# Altium footprint library RF_Shielding.PcbLib: 30 footprints (part 1 of 2)
Each footprint in its own frame and in the unit in brackets; x right, y up, seen from the top. Pads: shape width x height; smd on the part's side, far side on the other; paste and mask are expansions set on the pad; w line width, h text height; cw(c..) or ccw(c..) is an arc to the next point about the centre after c.
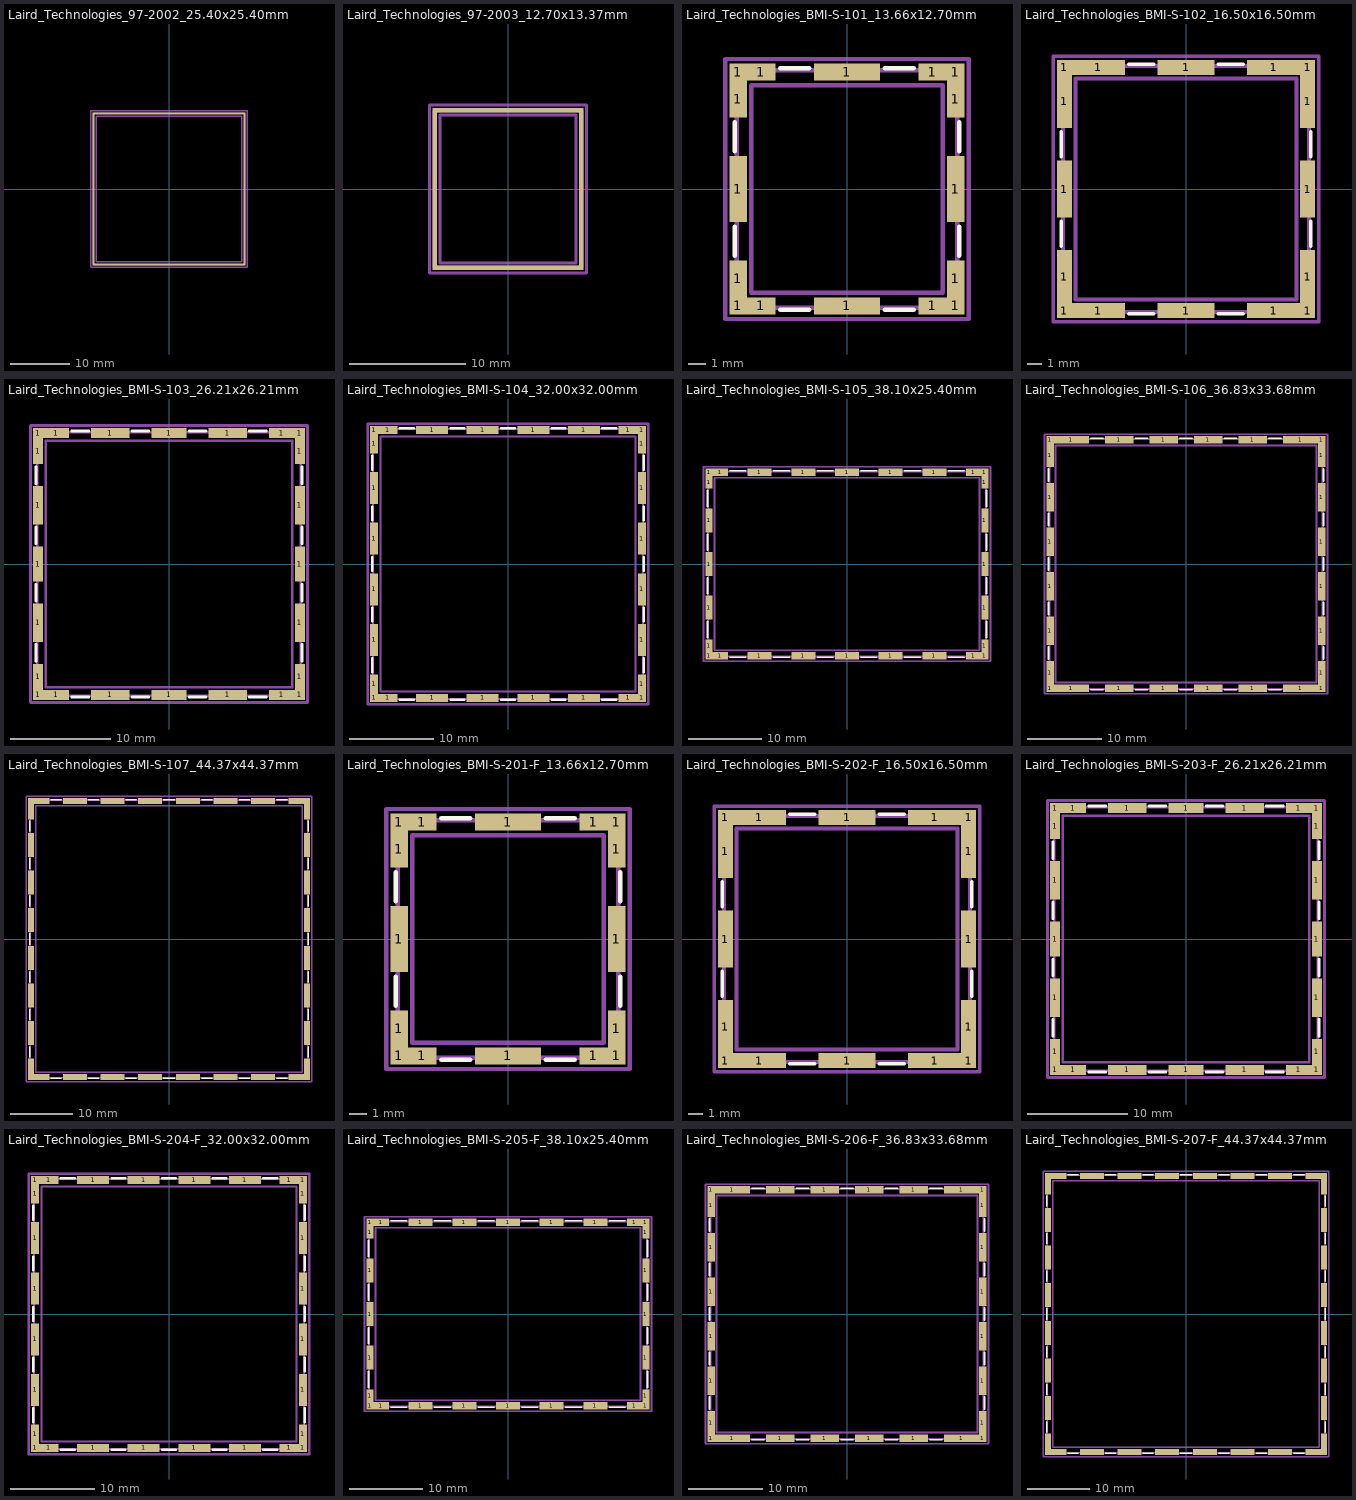
[diagram p0: the footprints below, top view; thin cyan lines are the x and y axes]

## Laird_Technologies_97-2002_25.40x25.40mm [mm]
pads (8):
  rect 0.38x0.38 smd: 1(-12.635,-12.635) 1(-12.635,12.635) 1(12.635,-12.635) 1(12.635,12.635)
  rect 0.38x24.89 smd: 1(-12.635,0) 1(12.635,0)
  rect 24.89x0.38 smd: 1(0,-12.635) 1(0,12.635)
F.Fab:
  lines w0.254: -12.7,-12.7 -12.7,12.7 12.7,12.7 12.7,-12.7 -12.7,-12.7
  text "'.Designator'" at -4.047,-0.84 h1
F.CrtYd:
  lines w0.254: -13.08,-13.08 -13.08,13.08 13.08,13.08 13.08,-13.08 -13.08,-13.08 ; -12.19,-12.19 -12.19,12.19 12.19,12.19 12.19,-12.19 -12.19,-12.19

## Laird_Technologies_97-2003_12.70x13.37mm [mm]
pads (8):
  rect 0.38x0.38 smd: 1(-6.285,-6.77) 1(-6.285,6.77) 1(6.285,-6.77) 1(6.285,6.77)
  rect 0.38x13.16 smd: 1(-6.285,0) 1(6.285,0)
  rect 12.19x0.38 smd: 1(0,-6.77) 1(0,6.77)
F.Fab:
  lines w0.254: -6.35,-6.685 -6.35,6.685 6.35,6.685 6.35,-6.685 -6.35,-6.685
  text "'.Designator'" at -4.047,-0.84 h1
F.CrtYd:
  lines w0.254: -6.73,-7.21 -6.73,7.21 6.73,7.21 6.73,-7.21 -6.73,-7.21 ; -5.84,-6.33 -5.84,6.33 5.84,6.33 5.84,-6.33 -5.84,-6.33

## Laird_Technologies_BMI-S-101_13.66x12.70mm [mm]
pads (16):
  rect 1x1 smd: 1(-6.25,-6.73) 1(-6.25,6.73) 1(6.25,-6.73) 1(6.25,6.73)
  rect 1x2.13 smd: 1(-6.25,-5.165) 1(-6.25,5.165) 1(6.25,-5.165) 1(6.25,5.165)
  rect 1x3.8 smd: 1(-6.25,0) 1(6.25,0)
  rect 1.65x1 smd: 1(-4.925,-6.73) 1(-4.925,6.73) 1(4.925,-6.73) 1(4.925,6.73)
  rect 3.8x1 smd: 1(0,-6.73) 1(0,6.73)
F.SilkS:
  lines w0.254: -6.46,-3.84 -6.46,-2.16 ; -6.46,2.16 -6.46,3.84 ; -3.84,-6.94 -2.16,-6.94 ; -3.84,6.94 -2.16,6.94 ; 2.16,-6.94 3.84,-6.94 ; 2.16,6.94 3.84,6.94 ; 6.46,-3.84 6.46,-2.16 ; 6.46,2.16 6.46,3.84
F.Fab:
  lines w0.254: -6.35,-6.83 -6.35,6.83 6.35,6.83 6.35,-6.83 -6.35,-6.83
  text "'.Designator'" at -4.047,-0.84 h1
F.CrtYd:
  lines w0.254: -7,-7.48 -7,7.48 7,7.48 7,-7.48 -7,-7.48 ; -5.5,-5.98 -5.5,5.98 5.5,5.98 5.5,-5.98 -5.5,-5.98

## Laird_Technologies_BMI-S-102_16.50x16.50mm [mm]
pads (16):
  rect 1x1 smd: 1(-8.15,-8.15) 1(-8.15,8.15) 1(8.15,-8.15) 1(8.15,8.15)
  rect 1x3.55 smd: 1(-8.15,-5.875) 1(-8.15,5.875) 1(8.15,-5.875) 1(8.15,5.875)
  rect 1x3.8 smd: 1(-8.15,0) 1(8.15,0)
  rect 3.55x1 smd: 1(-5.875,-8.15) 1(-5.875,8.15) 1(5.875,-8.15) 1(5.875,8.15)
  rect 3.8x1 smd: 1(0,-8.15) 1(0,8.15)
F.SilkS:
  lines w0.254: -8.36,-3.84 -8.36,-2.16 ; -8.36,2.16 -8.36,3.84 ; -3.84,-8.36 -2.16,-8.36 ; -3.84,8.36 -2.16,8.36 ; 2.16,-8.36 3.84,-8.36 ; 2.16,8.36 3.84,8.36 ; 8.36,-3.84 8.36,-2.16 ; 8.36,2.16 8.36,3.84
F.Fab:
  lines w0.254: -8.25,-8.25 -8.25,8.25 8.25,8.25 8.25,-8.25 -8.25,-8.25
  text "'.Designator'" at -4.047,-0.84 h1
F.CrtYd:
  lines w0.254: -8.9,-8.9 -8.9,8.9 8.9,8.9 8.9,-8.9 -8.9,-8.9 ; -7.4,-7.4 -7.4,7.4 7.4,7.4 7.4,-7.4 -7.4,-7.4

## Laird_Technologies_BMI-S-103_26.21x26.21mm [mm]
pads (24):
  rect 1x1 smd: 1(-13.005,-13.005) 1(-13.005,13.005) 1(13.005,-13.005) 1(13.005,13.005)
  rect 1x2.57 smd: 1(-13.005,-11.22) 1(-13.005,11.22) 1(13.005,-11.22) 1(13.005,11.22)
  rect 1x3.8 smd: 1(-13.005,-5.835) 1(-13.005,5.835) 1(13.005,-5.835) 1(13.005,5.835)
  rect 1x3.47 smd: 1(-13.005,0) 1(13.005,0)
  rect 2.57x1 smd: 1(-11.22,-13.005) 1(-11.22,13.005) 1(11.22,-13.005) 1(11.22,13.005)
  rect 3.8x1 smd: 1(-5.835,-13.005) 1(-5.835,13.005) 1(5.835,-13.005) 1(5.835,13.005)
  rect 3.47x1 smd: 1(0,-13.005) 1(0,13.005)
F.SilkS:
  lines w0.254: -13.215,-9.675 -13.215,-7.995 ; -13.215,-3.675 -13.215,-1.995 ; -13.215,1.995 -13.215,3.675 ; -13.215,7.995 -13.215,9.675 ; -9.675,-13.215 -7.995,-13.215 ; -9.675,13.215 -7.995,13.215 ; -3.675,-13.215 -1.995,-13.215 ; -3.675,13.215 -1.995,13.215 ; 1.995,-13.215 3.675,-13.215 ; 1.995,13.215 3.675,13.215 ; 7.995,-13.215 9.675,-13.215 ; 7.995,13.215 9.675,13.215 ; 13.215,-9.675 13.215,-7.995 ; 13.215,-3.675 13.215,-1.995 ; 13.215,1.995 13.215,3.675 ; 13.215,7.995 13.215,9.675
F.Fab:
  lines w0.254: -13.105,-13.105 -13.105,13.105 13.105,13.105 13.105,-13.105 -13.105,-13.105
  text "'.Designator'" at -4.047,-0.84 h1
F.CrtYd:
  lines w0.254: -13.76,-13.76 -13.76,13.76 13.76,13.76 13.76,-13.76 -13.76,-13.76 ; -12.25,-12.25 -12.25,12.25 12.25,12.25 12.25,-12.25 -12.25,-12.25

## Laird_Technologies_BMI-S-104_32.00x32.00mm [mm]
pads (28):
  rect 1x1 smd: 1(-15.9,-15.9) 1(-15.9,15.9) 1(15.9,-15.9) 1(15.9,15.9)
  rect 1x2.3 smd: 1(-15.9,-14.25) 1(-15.9,14.25) 1(15.9,-14.25) 1(15.9,14.25)
  rect 1x3.8 smd: 1(-15.9,-9) 1(-15.9,-3) 1(-15.9,3) 1(-15.9,9) 1(15.9,-9) 1(15.9,-3) 1(15.9,3) 1(15.9,9)
  rect 2.3x1 smd: 1(-14.25,-15.9) 1(-14.25,15.9) 1(14.25,-15.9) 1(14.25,15.9)
  rect 3.8x1 smd: 1(-9,-15.9) 1(-9,15.9) 1(-3,-15.9) 1(-3,15.9) 1(3,-15.9) 1(3,15.9) 1(9,-15.9) 1(9,15.9)
F.SilkS:
  lines w0.254: -16.11,-12.84 -16.11,-11.16 ; -16.11,-6.84 -16.11,-5.16 ; -16.11,-0.84 -16.11,0.84 ; -16.11,5.16 -16.11,6.84 ; -16.11,11.16 -16.11,12.84 ; -12.84,-16.11 -11.16,-16.11 ; -12.84,16.11 -11.16,16.11 ; -6.84,-16.11 -5.16,-16.11 ; -6.84,16.11 -5.16,16.11 ; -0.84,-16.11 0.84,-16.11 ; -0.84,16.11 0.84,16.11 ; 5.16,-16.11 6.84,-16.11 ; 5.16,16.11 6.84,16.11 ; 11.16,-16.11 12.84,-16.11 ; 11.16,16.11 12.84,16.11 ; 16.11,-12.84 16.11,-11.16 ; 16.11,-6.84 16.11,-5.16 ; 16.11,-0.84 16.11,0.84 ; 16.11,5.16 16.11,6.84 ; 16.11,11.16 16.11,12.84
F.Fab:
  lines w0.254: -16,-16 -16,16 16,16 16,-16 -16,-16
  text "'.Designator'" at -4.047,-0.84 h1
F.CrtYd:
  lines w0.254: -16.65,-16.65 -16.65,16.65 16.65,16.65 16.65,-16.65 -16.65,-16.65 ; -15.14,-15.14 -15.14,15.14 15.14,15.14 15.14,-15.14 -15.14,-15.14

## Laird_Technologies_BMI-S-105_38.10x25.40mm [mm]
pads (28):
  rect 1x1 smd: 1(-18.95,-12.6) 1(-18.95,12.6) 1(18.95,-12.6) 1(18.95,12.6)
  rect 1x1.75 smd: 1(-18.95,-11.225) 1(-18.95,11.225) 1(18.95,-11.225) 1(18.95,11.225)
  rect 1x3.3 smd: 1(-18.95,-6) 1(-18.95,0) 1(-18.95,6) 1(18.95,-6) 1(18.95,0) 1(18.95,6)
  rect 2.1x1 smd: 1(-17.4,-12.6) 1(-17.4,12.6) 1(17.4,-12.6) 1(17.4,12.6)
  rect 3.3x1 smd: 1(-12,-12.6) 1(-12,12.6) 1(-6,-12.6) 1(-6,12.6) 1(0,-12.6) 1(0,12.6) 1(6,-12.6) 1(6,12.6) 1(12,-12.6) 1(12,12.6)
F.SilkS:
  lines w0.254: -19.16,-10.09 -19.16,-7.91 ; -19.16,-4.09 -19.16,-1.91 ; -19.16,1.91 -19.16,4.09 ; -19.16,7.91 -19.16,10.09 ; -16.09,-12.81 -13.91,-12.81 ; -16.09,12.81 -13.91,12.81 ; -10.09,-12.81 -7.91,-12.81 ; -10.09,12.81 -7.91,12.81 ; -4.09,-12.81 -1.91,-12.81 ; -4.09,12.81 -1.91,12.81 ; 1.91,-12.81 4.09,-12.81 ; 1.91,12.81 4.09,12.81 ; 7.91,-12.81 10.09,-12.81 ; 7.91,12.81 10.09,12.81 ; 13.91,-12.81 16.09,-12.81 ; 13.91,12.81 16.09,12.81 ; 19.16,-10.09 19.16,-7.91 ; 19.16,-4.09 19.16,-1.91 ; 19.16,1.91 19.16,4.09 ; 19.16,7.91 19.16,10.09
F.Fab:
  lines w0.254: -19.05,-12.7 -19.05,12.7 19.05,12.7 19.05,-12.7 -19.05,-12.7
  text "'.Designator'" at -4.047,-0.84 h1
F.CrtYd:
  lines w0.254: -19.7,-13.35 -19.7,13.35 19.7,13.35 19.7,-13.35 -19.7,-13.35 ; -18.2,-11.85 -18.2,11.85 18.2,11.85 18.2,-11.85 -18.2,-11.85

## Laird_Technologies_BMI-S-106_36.83x33.68mm [mm]
pads (28):
  rect 1x1 smd: 1(-18.32,-16.74) 1(-18.32,16.74) 1(18.32,-16.74) 1(18.32,16.74)
  rect 1x3.14 smd: 1(-18.32,-14.67) 1(-18.32,14.67) 1(18.32,-14.67) 1(18.32,14.67)
  rect 1x3.8 smd: 1(-18.32,-9) 1(-18.32,-3) 1(-18.32,3) 1(-18.32,9) 1(18.32,-9) 1(18.32,-3) 1(18.32,3) 1(18.32,9)
  rect 4.72x1 smd: 1(-15.46,-16.74) 1(-15.46,16.74) 1(15.46,-16.74) 1(15.46,16.74)
  rect 3.8x1 smd: 1(-9,-16.74) 1(-9,16.74) 1(-3,-16.74) 1(-3,16.74) 1(3,-16.74) 1(3,16.74) 1(9,-16.74) 1(9,16.74)
F.SilkS:
  lines w0.254: -18.525,-12.84 -18.525,-11.16 ; -18.525,-6.84 -18.525,-5.16 ; -18.525,-0.84 -18.525,0.84 ; -18.525,5.16 -18.525,6.84 ; -18.525,11.16 -18.525,12.84 ; -12.84,-16.95 -11.16,-16.95 ; -12.84,16.95 -11.16,16.95 ; -6.84,-16.95 -5.16,-16.95 ; -6.84,16.95 -5.16,16.95 ; -0.84,-16.95 0.84,-16.95 ; -0.84,16.95 0.84,16.95 ; 5.16,-16.95 6.84,-16.95 ; 5.16,16.95 6.84,16.95 ; 11.16,-16.95 12.84,-16.95 ; 11.16,16.95 12.84,16.95 ; 18.525,-12.84 18.525,-11.16 ; 18.525,-6.84 18.525,-5.16 ; 18.525,-0.84 18.525,0.84 ; 18.525,5.16 18.525,6.84 ; 18.525,11.16 18.525,12.84
F.Fab:
  lines w0.254: -18.415,-16.84 -18.415,16.84 18.415,16.84 18.415,-16.84 -18.415,-16.84
  text "'.Designator'" at -4.047,-0.84 h1
F.CrtYd:
  lines w0.254: -19.07,-17.49 -19.07,17.49 19.07,17.49 19.07,-17.49 -19.07,-17.49 ; -17.57,-15.98 -17.57,15.98 17.57,15.98 17.57,-15.98 -17.57,-15.98

## Laird_Technologies_BMI-S-107_44.37x44.37mm [mm]
pads (36):
  rect 1x1 smd: 1(-22.09,-22.09) 1(-22.09,22.09) 1(22.09,-22.09) 1(22.09,22.09)
  rect 1x2.44 smd: 1(-22.09,-20.37) 1(-22.09,20.37) 1(22.09,-20.37) 1(22.09,20.37)
  rect 1x3.8 smd: 1(-22.09,-15.05) 1(-22.09,-9.05) 1(-22.09,-3.05) 1(-22.09,3.05) 1(-22.09,9.05) 1(-22.09,15.05) 1(22.09,-15.05) 1(22.09,-9.05) 1(22.09,-3.05) 1(22.09,3.05) 1(22.09,9.05) 1(22.09,15.05)
  rect 2.44x1 smd: 1(-20.37,-22.09) 1(-20.37,22.09) 1(20.37,-22.09) 1(20.37,22.09)
  rect 3.8x1 smd: 1(-15.05,-22.09) 1(-15.05,22.09) 1(-9.05,-22.09) 1(-9.05,22.09) 1(-3.05,-22.09) 1(-3.05,22.09) 1(3.05,-22.09) 1(3.05,22.09) 1(9.05,-22.09) 1(9.05,22.09) 1(15.05,-22.09) 1(15.05,22.09)
F.SilkS:
  lines w0.254: -22.295,-18.89 -22.295,-17.21 ; -22.295,-12.89 -22.295,-11.21 ; -22.295,-6.89 -22.295,-5.21 ; -22.295,-0.89 -22.295,0.89 ; -22.295,5.21 -22.295,6.89 ; -22.295,11.21 -22.295,12.89 ; -22.295,17.21 -22.295,18.89 ; -18.89,-22.295 -17.21,-22.295 ; -18.89,22.295 -17.21,22.295 ; -12.89,-22.295 -11.21,-22.295 ; -12.89,22.295 -11.21,22.295 ; -6.89,-22.295 -5.21,-22.295 ; -6.89,22.295 -5.21,22.295 ; -0.89,-22.295 0.89,-22.295 ; -0.89,22.295 0.89,22.295 ; 5.21,-22.295 6.89,-22.295 ; 5.21,22.295 6.89,22.295 ; 11.21,-22.295 12.89,-22.295 ; 11.21,22.295 12.89,22.295 ; 17.21,-22.295 18.89,-22.295 ; 17.21,22.295 18.89,22.295 ; 22.295,-18.89 22.295,-17.21 ; 22.295,-12.89 22.295,-11.21 ; 22.295,-6.89 22.295,-5.21 ; 22.295,-0.89 22.295,0.89 ; 22.295,5.21 22.295,6.89 ; 22.295,11.21 22.295,12.89 ; 22.295,17.21 22.295,18.89
F.Fab:
  lines w0.254: -22.185,-22.185 -22.185,22.185 22.185,22.185 22.185,-22.185 -22.185,-22.185
  text "'.Designator'" at -4.047,-0.84 h1
F.CrtYd:
  lines w0.254: -22.84,-22.84 -22.84,22.84 22.84,22.84 22.84,-22.84 -22.84,-22.84 ; -21.34,-21.34 -21.34,21.34 21.34,21.34 21.34,-21.34 -21.34,-21.34

## Laird_Technologies_BMI-S-201-F_13.66x12.70mm [mm]
pads (16):
  rect 1x1 smd: 1(-6.25,-6.73) 1(-6.25,6.73) 1(6.25,-6.73) 1(6.25,6.73)
  rect 1x2.13 smd: 1(-6.25,-5.165) 1(-6.25,5.165) 1(6.25,-5.165) 1(6.25,5.165)
  rect 1x3.8 smd: 1(-6.25,0) 1(6.25,0)
  rect 1.65x1 smd: 1(-4.925,-6.73) 1(-4.925,6.73) 1(4.925,-6.73) 1(4.925,6.73)
  rect 3.8x1 smd: 1(0,-6.73) 1(0,6.73)
F.SilkS:
  lines w0.254: -6.46,-3.84 -6.46,-2.16 ; -6.46,2.16 -6.46,3.84 ; -3.84,-6.94 -2.16,-6.94 ; -3.84,6.94 -2.16,6.94 ; 2.16,-6.94 3.84,-6.94 ; 2.16,6.94 3.84,6.94 ; 6.46,-3.84 6.46,-2.16 ; 6.46,2.16 6.46,3.84
F.Fab:
  lines w0.254: -6.35,-6.83 -6.35,6.83 6.35,6.83 6.35,-6.83 -6.35,-6.83
  text "'.Designator'" at -4.047,-0.84 h1
F.CrtYd:
  lines w0.254: -7,-7.48 -7,7.48 7,7.48 7,-7.48 -7,-7.48 ; -5.5,-5.98 -5.5,5.98 5.5,5.98 5.5,-5.98 -5.5,-5.98

## Laird_Technologies_BMI-S-202-F_16.50x16.50mm [mm]
pads (16):
  rect 1x1 smd: 1(-8.15,-8.15) 1(-8.15,8.15) 1(8.15,-8.15) 1(8.15,8.15)
  rect 1x3.55 smd: 1(-8.15,-5.875) 1(-8.15,5.875) 1(8.15,-5.875) 1(8.15,5.875)
  rect 1x3.8 smd: 1(-8.15,0) 1(8.15,0)
  rect 3.55x1 smd: 1(-5.875,-8.15) 1(-5.875,8.15) 1(5.875,-8.15) 1(5.875,8.15)
  rect 3.8x1 smd: 1(0,-8.15) 1(0,8.15)
F.SilkS:
  lines w0.254: -8.36,-3.84 -8.36,-2.16 ; -8.36,2.16 -8.36,3.84 ; -3.84,-8.36 -2.16,-8.36 ; -3.84,8.36 -2.16,8.36 ; 2.16,-8.36 3.84,-8.36 ; 2.16,8.36 3.84,8.36 ; 8.36,-3.84 8.36,-2.16 ; 8.36,2.16 8.36,3.84
F.Fab:
  lines w0.254: -8.25,-8.25 -8.25,8.25 8.25,8.25 8.25,-8.25 -8.25,-8.25
  text "'.Designator'" at -4.047,-0.84 h1
F.CrtYd:
  lines w0.254: -8.9,-8.9 -8.9,8.9 8.9,8.9 8.9,-8.9 -8.9,-8.9 ; -7.4,-7.4 -7.4,7.4 7.4,7.4 7.4,-7.4 -7.4,-7.4

## Laird_Technologies_BMI-S-203-F_26.21x26.21mm [mm]
pads (24):
  rect 1x1 smd: 1(-13.005,-13.005) 1(-13.005,13.005) 1(13.005,-13.005) 1(13.005,13.005)
  rect 1x2.57 smd: 1(-13.005,-11.22) 1(-13.005,11.22) 1(13.005,-11.22) 1(13.005,11.22)
  rect 1x3.8 smd: 1(-13.005,-5.835) 1(-13.005,5.835) 1(13.005,-5.835) 1(13.005,5.835)
  rect 1x3.47 smd: 1(-13.005,0) 1(13.005,0)
  rect 2.57x1 smd: 1(-11.22,-13.005) 1(-11.22,13.005) 1(11.22,-13.005) 1(11.22,13.005)
  rect 3.8x1 smd: 1(-5.835,-13.005) 1(-5.835,13.005) 1(5.835,-13.005) 1(5.835,13.005)
  rect 3.47x1 smd: 1(0,-13.005) 1(0,13.005)
F.SilkS:
  lines w0.254: -13.215,-9.675 -13.215,-7.995 ; -13.215,-3.675 -13.215,-1.995 ; -13.215,1.995 -13.215,3.675 ; -13.215,7.995 -13.215,9.675 ; -9.675,-13.215 -7.995,-13.215 ; -9.675,13.215 -7.995,13.215 ; -3.675,-13.215 -1.995,-13.215 ; -3.675,13.215 -1.995,13.215 ; 1.995,-13.215 3.675,-13.215 ; 1.995,13.215 3.675,13.215 ; 7.995,-13.215 9.675,-13.215 ; 7.995,13.215 9.675,13.215 ; 13.215,-9.675 13.215,-7.995 ; 13.215,-3.675 13.215,-1.995 ; 13.215,1.995 13.215,3.675 ; 13.215,7.995 13.215,9.675
F.Fab:
  lines w0.254: -13.105,-13.105 -13.105,13.105 13.105,13.105 13.105,-13.105 -13.105,-13.105
  text "'.Designator'" at -4.047,-0.84 h1
F.CrtYd:
  lines w0.254: -13.76,-13.76 -13.76,13.76 13.76,13.76 13.76,-13.76 -13.76,-13.76 ; -12.25,-12.25 -12.25,12.25 12.25,12.25 12.25,-12.25 -12.25,-12.25

## Laird_Technologies_BMI-S-204-F_32.00x32.00mm [mm]
pads (28):
  rect 1x1 smd: 1(-15.9,-15.9) 1(-15.9,15.9) 1(15.9,-15.9) 1(15.9,15.9)
  rect 1x2.3 smd: 1(-15.9,-14.25) 1(-15.9,14.25) 1(15.9,-14.25) 1(15.9,14.25)
  rect 1x3.8 smd: 1(-15.9,-9) 1(-15.9,-3) 1(-15.9,3) 1(-15.9,9) 1(15.9,-9) 1(15.9,-3) 1(15.9,3) 1(15.9,9)
  rect 2.3x1 smd: 1(-14.25,-15.9) 1(-14.25,15.9) 1(14.25,-15.9) 1(14.25,15.9)
  rect 3.8x1 smd: 1(-9,-15.9) 1(-9,15.9) 1(-3,-15.9) 1(-3,15.9) 1(3,-15.9) 1(3,15.9) 1(9,-15.9) 1(9,15.9)
F.SilkS:
  lines w0.254: -16.11,-12.84 -16.11,-11.16 ; -16.11,-6.84 -16.11,-5.16 ; -16.11,-0.84 -16.11,0.84 ; -16.11,5.16 -16.11,6.84 ; -16.11,11.16 -16.11,12.84 ; -12.84,-16.11 -11.16,-16.11 ; -12.84,16.11 -11.16,16.11 ; -6.84,-16.11 -5.16,-16.11 ; -6.84,16.11 -5.16,16.11 ; -0.84,-16.11 0.84,-16.11 ; -0.84,16.11 0.84,16.11 ; 5.16,-16.11 6.84,-16.11 ; 5.16,16.11 6.84,16.11 ; 11.16,-16.11 12.84,-16.11 ; 11.16,16.11 12.84,16.11 ; 16.11,-12.84 16.11,-11.16 ; 16.11,-6.84 16.11,-5.16 ; 16.11,-0.84 16.11,0.84 ; 16.11,5.16 16.11,6.84 ; 16.11,11.16 16.11,12.84
F.Fab:
  lines w0.254: -16,-16 -16,16 16,16 16,-16 -16,-16
  text "'.Designator'" at -4.047,-0.84 h1
F.CrtYd:
  lines w0.254: -16.65,-16.65 -16.65,16.65 16.65,16.65 16.65,-16.65 -16.65,-16.65 ; -15.14,-15.14 -15.14,15.14 15.14,15.14 15.14,-15.14 -15.14,-15.14

## Laird_Technologies_BMI-S-205-F_38.10x25.40mm [mm]
pads (28):
  rect 1x1 smd: 1(-18.95,-12.6) 1(-18.95,12.6) 1(18.95,-12.6) 1(18.95,12.6)
  rect 1x1.75 smd: 1(-18.95,-11.225) 1(-18.95,11.225) 1(18.95,-11.225) 1(18.95,11.225)
  rect 1x3.3 smd: 1(-18.95,-6) 1(-18.95,0) 1(-18.95,6) 1(18.95,-6) 1(18.95,0) 1(18.95,6)
  rect 2.1x1 smd: 1(-17.4,-12.6) 1(-17.4,12.6) 1(17.4,-12.6) 1(17.4,12.6)
  rect 3.3x1 smd: 1(-12,-12.6) 1(-12,12.6) 1(-6,-12.6) 1(-6,12.6) 1(0,-12.6) 1(0,12.6) 1(6,-12.6) 1(6,12.6) 1(12,-12.6) 1(12,12.6)
F.SilkS:
  lines w0.254: -19.16,-10.09 -19.16,-7.91 ; -19.16,-4.09 -19.16,-1.91 ; -19.16,1.91 -19.16,4.09 ; -19.16,7.91 -19.16,10.09 ; -16.09,-12.81 -13.91,-12.81 ; -16.09,12.81 -13.91,12.81 ; -10.09,-12.81 -7.91,-12.81 ; -10.09,12.81 -7.91,12.81 ; -4.09,-12.81 -1.91,-12.81 ; -4.09,12.81 -1.91,12.81 ; 1.91,-12.81 4.09,-12.81 ; 1.91,12.81 4.09,12.81 ; 7.91,-12.81 10.09,-12.81 ; 7.91,12.81 10.09,12.81 ; 13.91,-12.81 16.09,-12.81 ; 13.91,12.81 16.09,12.81 ; 19.16,-10.09 19.16,-7.91 ; 19.16,-4.09 19.16,-1.91 ; 19.16,1.91 19.16,4.09 ; 19.16,7.91 19.16,10.09
F.Fab:
  lines w0.254: -19.05,-12.7 -19.05,12.7 19.05,12.7 19.05,-12.7 -19.05,-12.7
  text "'.Designator'" at -4.047,-0.84 h1
F.CrtYd:
  lines w0.254: -19.7,-13.35 -19.7,13.35 19.7,13.35 19.7,-13.35 -19.7,-13.35 ; -18.2,-11.85 -18.2,11.85 18.2,11.85 18.2,-11.85 -18.2,-11.85

## Laird_Technologies_BMI-S-206-F_36.83x33.68mm [mm]
pads (28):
  rect 1x1 smd: 1(-18.32,-16.74) 1(-18.32,16.74) 1(18.32,-16.74) 1(18.32,16.74)
  rect 1x3.14 smd: 1(-18.32,-14.67) 1(-18.32,14.67) 1(18.32,-14.67) 1(18.32,14.67)
  rect 1x3.8 smd: 1(-18.32,-9) 1(-18.32,-3) 1(-18.32,3) 1(-18.32,9) 1(18.32,-9) 1(18.32,-3) 1(18.32,3) 1(18.32,9)
  rect 4.72x1 smd: 1(-15.46,-16.74) 1(-15.46,16.74) 1(15.46,-16.74) 1(15.46,16.74)
  rect 3.8x1 smd: 1(-9,-16.74) 1(-9,16.74) 1(-3,-16.74) 1(-3,16.74) 1(3,-16.74) 1(3,16.74) 1(9,-16.74) 1(9,16.74)
F.SilkS:
  lines w0.254: -18.525,-12.84 -18.525,-11.16 ; -18.525,-6.84 -18.525,-5.16 ; -18.525,-0.84 -18.525,0.84 ; -18.525,5.16 -18.525,6.84 ; -18.525,11.16 -18.525,12.84 ; -12.84,-16.95 -11.16,-16.95 ; -12.84,16.95 -11.16,16.95 ; -6.84,-16.95 -5.16,-16.95 ; -6.84,16.95 -5.16,16.95 ; -0.84,-16.95 0.84,-16.95 ; -0.84,16.95 0.84,16.95 ; 5.16,-16.95 6.84,-16.95 ; 5.16,16.95 6.84,16.95 ; 11.16,-16.95 12.84,-16.95 ; 11.16,16.95 12.84,16.95 ; 18.525,-12.84 18.525,-11.16 ; 18.525,-6.84 18.525,-5.16 ; 18.525,-0.84 18.525,0.84 ; 18.525,5.16 18.525,6.84 ; 18.525,11.16 18.525,12.84
F.Fab:
  lines w0.254: -18.415,-16.84 -18.415,16.84 18.415,16.84 18.415,-16.84 -18.415,-16.84
  text "'.Designator'" at -4.047,-0.84 h1
F.CrtYd:
  lines w0.254: -19.07,-17.49 -19.07,17.49 19.07,17.49 19.07,-17.49 -19.07,-17.49 ; -17.57,-15.98 -17.57,15.98 17.57,15.98 17.57,-15.98 -17.57,-15.98

## Laird_Technologies_BMI-S-207-F_44.37x44.37mm [mm]
pads (36):
  rect 1x1 smd: 1(-22.09,-22.09) 1(-22.09,22.09) 1(22.09,-22.09) 1(22.09,22.09)
  rect 1x2.44 smd: 1(-22.09,-20.37) 1(-22.09,20.37) 1(22.09,-20.37) 1(22.09,20.37)
  rect 1x3.8 smd: 1(-22.09,-15.05) 1(-22.09,-9.05) 1(-22.09,-3.05) 1(-22.09,3.05) 1(-22.09,9.05) 1(-22.09,15.05) 1(22.09,-15.05) 1(22.09,-9.05) 1(22.09,-3.05) 1(22.09,3.05) 1(22.09,9.05) 1(22.09,15.05)
  rect 2.44x1 smd: 1(-20.37,-22.09) 1(-20.37,22.09) 1(20.37,-22.09) 1(20.37,22.09)
  rect 3.8x1 smd: 1(-15.05,-22.09) 1(-15.05,22.09) 1(-9.05,-22.09) 1(-9.05,22.09) 1(-3.05,-22.09) 1(-3.05,22.09) 1(3.05,-22.09) 1(3.05,22.09) 1(9.05,-22.09) 1(9.05,22.09) 1(15.05,-22.09) 1(15.05,22.09)
F.SilkS:
  lines w0.254: -22.295,-18.89 -22.295,-17.21 ; -22.295,-12.89 -22.295,-11.21 ; -22.295,-6.89 -22.295,-5.21 ; -22.295,-0.89 -22.295,0.89 ; -22.295,5.21 -22.295,6.89 ; -22.295,11.21 -22.295,12.89 ; -22.295,17.21 -22.295,18.89 ; -18.89,-22.295 -17.21,-22.295 ; -18.89,22.295 -17.21,22.295 ; -12.89,-22.295 -11.21,-22.295 ; -12.89,22.295 -11.21,22.295 ; -6.89,-22.295 -5.21,-22.295 ; -6.89,22.295 -5.21,22.295 ; -0.89,-22.295 0.89,-22.295 ; -0.89,22.295 0.89,22.295 ; 5.21,-22.295 6.89,-22.295 ; 5.21,22.295 6.89,22.295 ; 11.21,-22.295 12.89,-22.295 ; 11.21,22.295 12.89,22.295 ; 17.21,-22.295 18.89,-22.295 ; 17.21,22.295 18.89,22.295 ; 22.295,-18.89 22.295,-17.21 ; 22.295,-12.89 22.295,-11.21 ; 22.295,-6.89 22.295,-5.21 ; 22.295,-0.89 22.295,0.89 ; 22.295,5.21 22.295,6.89 ; 22.295,11.21 22.295,12.89 ; 22.295,17.21 22.295,18.89
F.Fab:
  lines w0.254: -22.185,-22.185 -22.185,22.185 22.185,22.185 22.185,-22.185 -22.185,-22.185
  text "'.Designator'" at -4.047,-0.84 h1
F.CrtYd:
  lines w0.254: -22.84,-22.84 -22.84,22.84 22.84,22.84 22.84,-22.84 -22.84,-22.84 ; -21.34,-21.34 -21.34,21.34 21.34,21.34 21.34,-21.34 -21.34,-21.34